# Altium schematic symbol library Flex PCB.SCHLIB: 32 symbols (part 2 of 2)
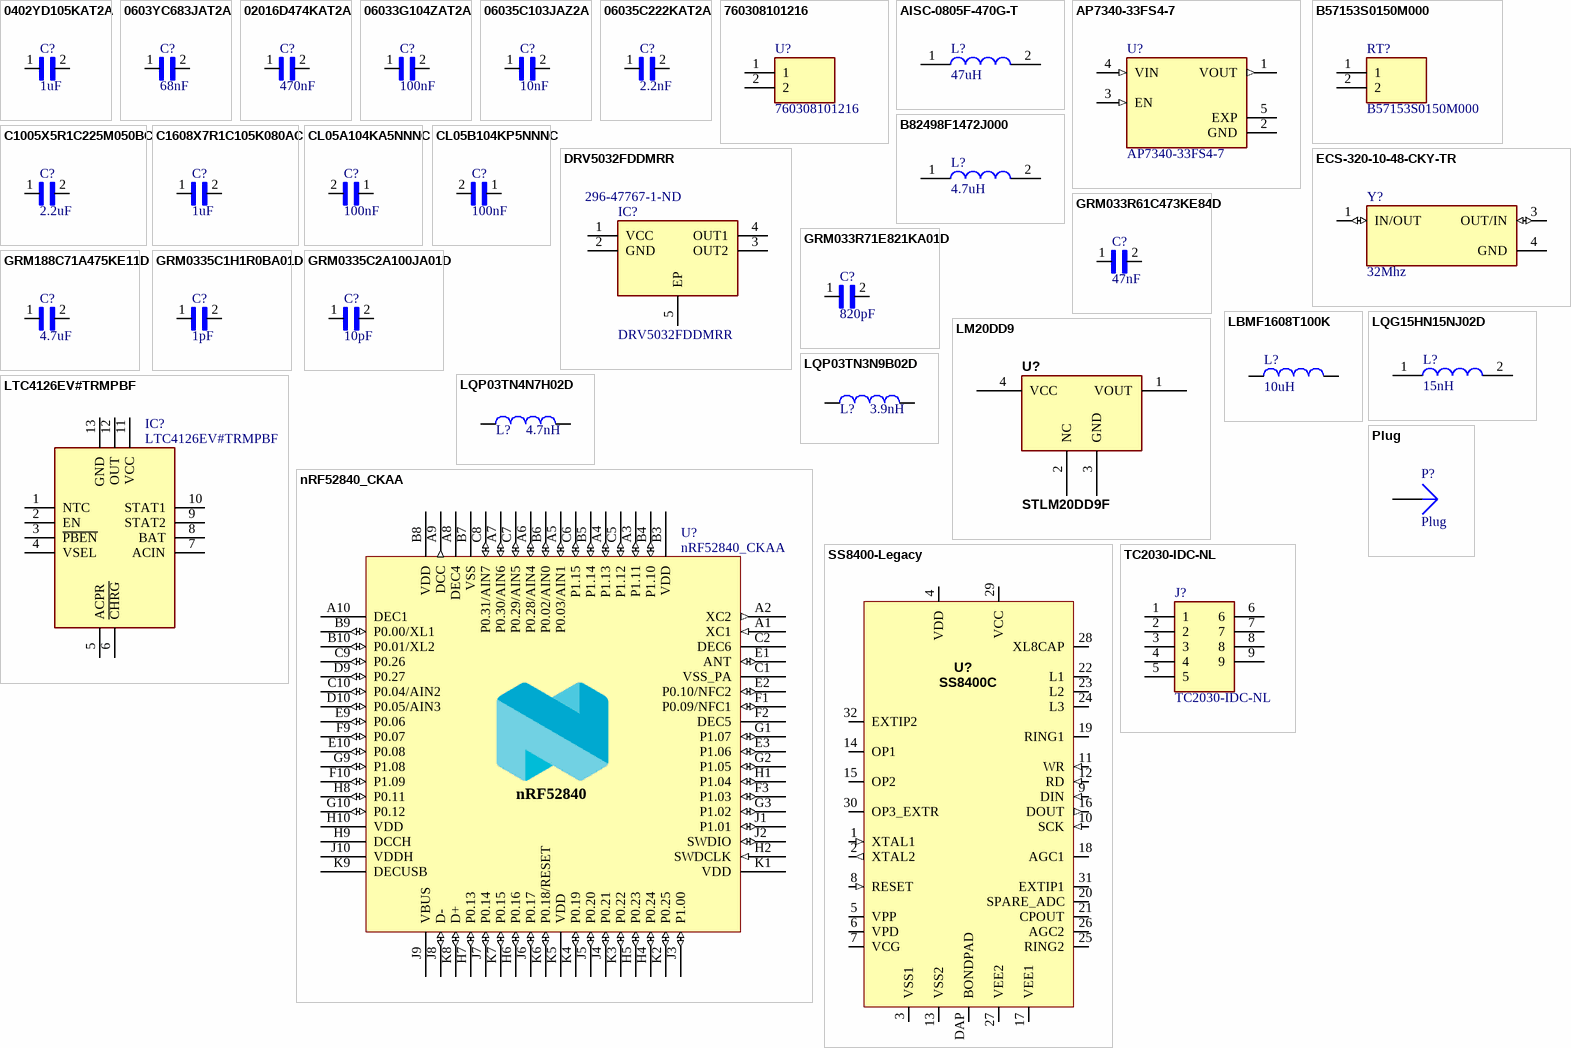
[diagram p1: symbols 0402YD105KAT2A to TC2030-IDC-NL]

## nRF52840_CKAA
designator U?
Multi-protocol Bluetooth Low Energy, IEEE 802.15.4, ANT and 2.4GHz proprietary system-on-chip; Manufacturer: Nordic Semiconductor; Manufacturer Part Number: nRF52840-CKAAD0; Part Number: nRF52840-CKAAD0; LatestRevisionDate: 2018-12-17; Pin Count: 94; Publisher: Nordic Semiconductor; Published: 2018-12-17; Value: nRF52840_CKAA; Footprint Doc: WLCSP-94
footprint BGA94C35P10X10_352X356X50
pins: A1 XC1 (in), A2 XC2 (out), A3 P1.11 (io), A4 P1.13 (io), A5 P0.03/AIN1 (io), A6 P0.28/AIN4 (io), A7 P0.30/AIN6 (io), A8 DEC4 (power), A9 DCC (out), A10 DEC1 (power), B3 VDD (power), B4 P1.10 (io), B5 P1.14 (io), B6 P0.02/AIN0 (io), B7 VSS (power), B8 VDD (power), B9 P0.00/XL1 (io), B10 P0.01/XL2 (io), C1 VSS_PA (power), C2 DEC6 (power), C4 GND (power) hidden to GND, C5 P1.12 (io), C6 P1.15 (io), C7 P0.29/AIN5 (io), C8 P0.31/AIN7 (io), C9 P0.26 (io), C10 P0.04/AIN2 (io), D3 GND (power) hidden to GND, D4 GND (power) hidden to GND, D5 GND (power) hidden to GND, D6 GND (power) hidden to GND, D7 GND (power) hidden to GND, D8 GND (power) hidden to GND, D9 P0.27 (io), D10 P0.05/AIN3 (io), E1 ANT (io), E2 P0.10/NFC2 (io), E3 P1.06 (io), E4 GND (power) hidden to GND, E5 GND (power) hidden to GND, E6 GND (power) hidden to GND, E7 GND (power) hidden to GND, E8 GND (power) hidden to GND, E9 P0.06 (io), E10 P0.08 (io), F1 P0.09/NFC1 (io), F2 DEC5 (power), F3 P1.03 (io), F4 GND (power) hidden to GND, F5 GND (power) hidden to GND, F6 GND (power) hidden to GND, F7 GND (power) hidden to GND, F8 GND (power) hidden to GND, F9 P0.07 (io), F10 P1.09 (io), G1 P1.07 (io), G2 P1.05 (io), G3 P1.02 (io), G4 GND (power) hidden to GND, G5 GND (power) hidden to GND, G6 GND (power) hidden to GND, G7 GND (power) hidden to GND, G8 GND (power) hidden to GND, G9 P1.08 (io), G10 P0.12 (io), H1 P1.04 (io), H2 SWDCLK (in), H4 P0.24 (io), H5 P0.23 (io), H6 P0.16 (io), H7 P0.13 (io), H8 P0.11 (io), H9 DCCH (power), H10 VDD (power), J1 P1.01 (io), J2 SWDIO (io), J3 P1.00 (io), J4 P0.21 (io), J5 P0.20 (io), J6 P0.17 (io), J7 P0.14 (io), J8 D- (io), J9 VBUS (power), J10 VDDH (power), K1 VDD (power), K2 P0.25 (io), K3 P0.22 (io), K4 P0.19 (io), K5 VDD (power), K6 P0.18/RESET (io), K7 P0.15 (io), K8 D+ (io), K9 DECUSB (power), K10 GND (power) hidden to GND
text: nRF52840

## Plug
designator P?
LatestRevisionDate: 17-Jul-2002; LatestRevisionNote: Re-released for DXP Platform.; Publisher: Altium Limited
footprint PIN1 (Connector; Plug)
signal-integrity model Connector
pins: 1

## SS8400-Legacy
designator U?, comment SS8400C
Value: SS8400C
footprint SS8400C_WLCSP
pins: 1 XTAL1 (in), 2 XTAL2 (out), 3 VSS1, 4 VDD, 5 VPP, 6 VPD, 7 VCG, 8 RESET (in), 9 DIN (in), 10 SCK (in), 11 WR (in), 12 RD (in), 13 VSS2, 14 OP1, 15 OP2, 16 DOUT (out), 17 VEE1, 18 AGC1, 19 RING1, 20 SPARE_ADC, 21 CPOUT, 22 L1, 23 L2, 24 L3, 25 RING2, 26 AGC2, 27 VEE2, 28 XL8CAP, 29 VCC, 30 OP3_EXTR, 31 EXTIP1, 32 EXTIP2, DAP BONDPAD

## TC2030-IDC-NL
designator J?
Connector; Manufacturer_Name: Tag Connect; Height: 18.669mm; Manufacturer_Part_Number: TC2030-IDC-NL
footprint TC2030IDCNL
pins: 1, 2, 3, 4, 5, 6, 7, 8, 9